# EAGLE library part SN74AUP3G34 (library bschulz)
SN74AUP3G34 - Logic Buffer Characteristics: VCC: 0.8~3.6V Operating Temperature: -40°C to 85°C Number of Gates: 3 /li> Inverting: No Digikey: 296-27503-1-ND (UQFN, RSE) <https://www.digikey.com/scripts/DkSearch/dksus.dll?Detail&itemSeq=257211059&uq=636588853324239862> 296-36973-1-ND (XFDFN, DQE) <https://www.digikey.com/product-detail/en/texas-instruments/SN74AUP3G34DQER/296-36973-1-ND/4428921> 296-25595-1-ND (VFSOP, DCU) <https://www.digikey.com/product-detail/en/texas-instruments/SN74AUP3G34DCUR/296-25595-1-ND/2202056>
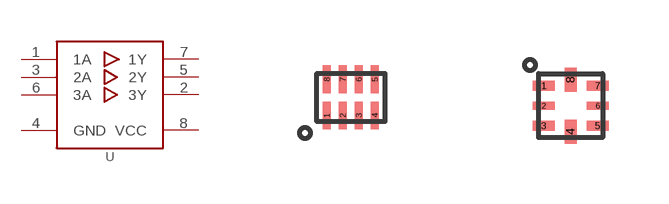
[diagram p39: symbol with the pads of DQM_R-PX2SON-N8; footprints DQM_R-PX2SON-N8, UQFN-8]

Designator prefix U

## SN74AUP3G34DQE (DIGIKEY: 296-36973-1-ND; DISP: SN74AUP3G34; MF: TI; MPN: SN74AUP3G34DQER)  [DQM_R-PX2SON-N8]
1  1A  in
2  3Y  out
3  2A  in
4  GND  pwr
5  2Y  out
6  3A  in
7  1Y  out
8  VCC  pwr

## SN74AUP3G34RSE (DIGIKEY: 296-27503-1-ND; DISP: SN74AUP3G34; MF: TI; MPN: SN74AUP3G34RSER)  [UQFN-8]
1  1Y  out
2  3A  in
3  2Y  out
4  GND  pwr
5  2A  in
6  3Y  out
7  1A  in
8  VCC  pwr

## SN74AUP3G34DCU (DIGIKEY: 296-25595-1-ND; DISP: SN74AUP3G34; MF: TI; MPN: SN74AUP3G34DCUR)  [DCU_(R-PDSO-G8)]
Pads as for DQM_R-PX2SON-N8

## Footprint DQM_R-PX2SON-N8 (pad centres in mm)
smd 0.2 x 0.7: 1 -0.6,-0.45; 2 -0.2,-0.45; 3 0.2,-0.45; 4 0.6,-0.45; 5 0.6,0.45; 6 0.2,0.45; 7 -0.2,0.45; 8 -0.6,0.45

## Footprint UQFN-8 (pad centres in mm)
smd 0.55 x 0.25: 1 -0.675,0.5; 3 -0.675,-0.5; 5 0.675,-0.5; 7 0.675,0.5
smd 0.55 x 0.2: 2 -0.675,0; 6 0.675,0
smd 0.3 x 0.6: 4 0,-0.65; 8 0,0.65

## Footprint DCU_(R-PDSO-G8) (pad centres in mm)
DCU (R-PDSO-G8) PLASTIC SMALL OUTLINE PACKAGE (DIE DOWN) Soure: Data sheet <http://www.ti.com/lit/ds/symlink/ads7042.pdf>
smd 0.3 x 0.8: 1 -0.75,-1.55; 2 -0.25,-1.55; 3 0.25,-1.55; 4 0.75,-1.55; 5 0.75,1.55; 6 0.25,1.55; 7 -0.25,1.55; 8 -0.75,1.55